# Altium schematic symbol library Hall_Sensor.SchLib: 1 symbol
Pins are listed as number, name and electrical type; pins without a type are passive.

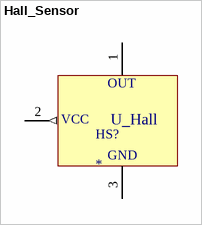
[diagram p0: symbol Hall_Sensor]

## Hall_Sensor
designator HS?
pins: 1 VCC (power), 2 OUT (out), 3 GND (power)
text: U_Hall